# Altium footprint library 74435580330.PcbLib: 1 footprints
Each footprint in its own frame and in the unit in brackets; x right, y up, seen from the top. Pads: shape width x height; smd on the part's side, far side on the other; paste and mask are expansions set on the pad; w line width, h text height; cw(c..) or ccw(c..) is an arc to the next point about the centre after c.
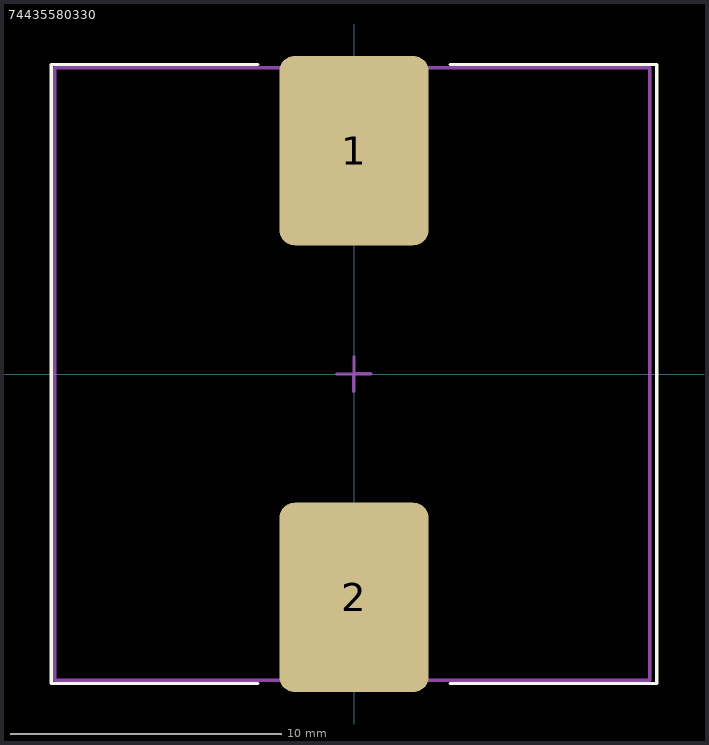
[diagram p0: the footprint, top view; thin cyan lines are the x and y axes]

## 74435580330 [mm]
pads (2):
  rrect20% 5.5x7 smd mask+0.051: 1(0,8.25) 2(0,-8.25)
Top Overlay:
  lines w0.127: -3.556,-11.43 -11.176,-11.43 -11.176,11.43 -3.556,11.43 ; 3.556,-11.43 11.176,-11.43 11.176,11.43 3.556,11.43
Mechanical 13:
  lines w0.127: -11.049,-11.303 10.922,-11.303 10.922,11.303 -11.049,11.303 -11.049,-11.303
Mechanical 15:
  lines w0.127: -0.635,0 0,0 0,0.635 ; -0.023,0.005 0.612,0.005 ; -0.017,-0.63 -0.017,0.005
3D body "WE-HCI_2212_7443558 (rev1).stp": height 12, standoff 0, extent -11,-11.25 11,11.25